# Altium footprint library pcb lib.PcbLib: 160 footprints (part 2 of 10)
Each footprint in its own frame and in the unit in brackets; x right, y up, seen from the top. Pads: shape width x height; smd on the part's side, far side on the other; paste and mask are expansions set on the pad; w line width, h text height; cw(c..) or ccw(c..) is an arc to the next point about the centre after c.
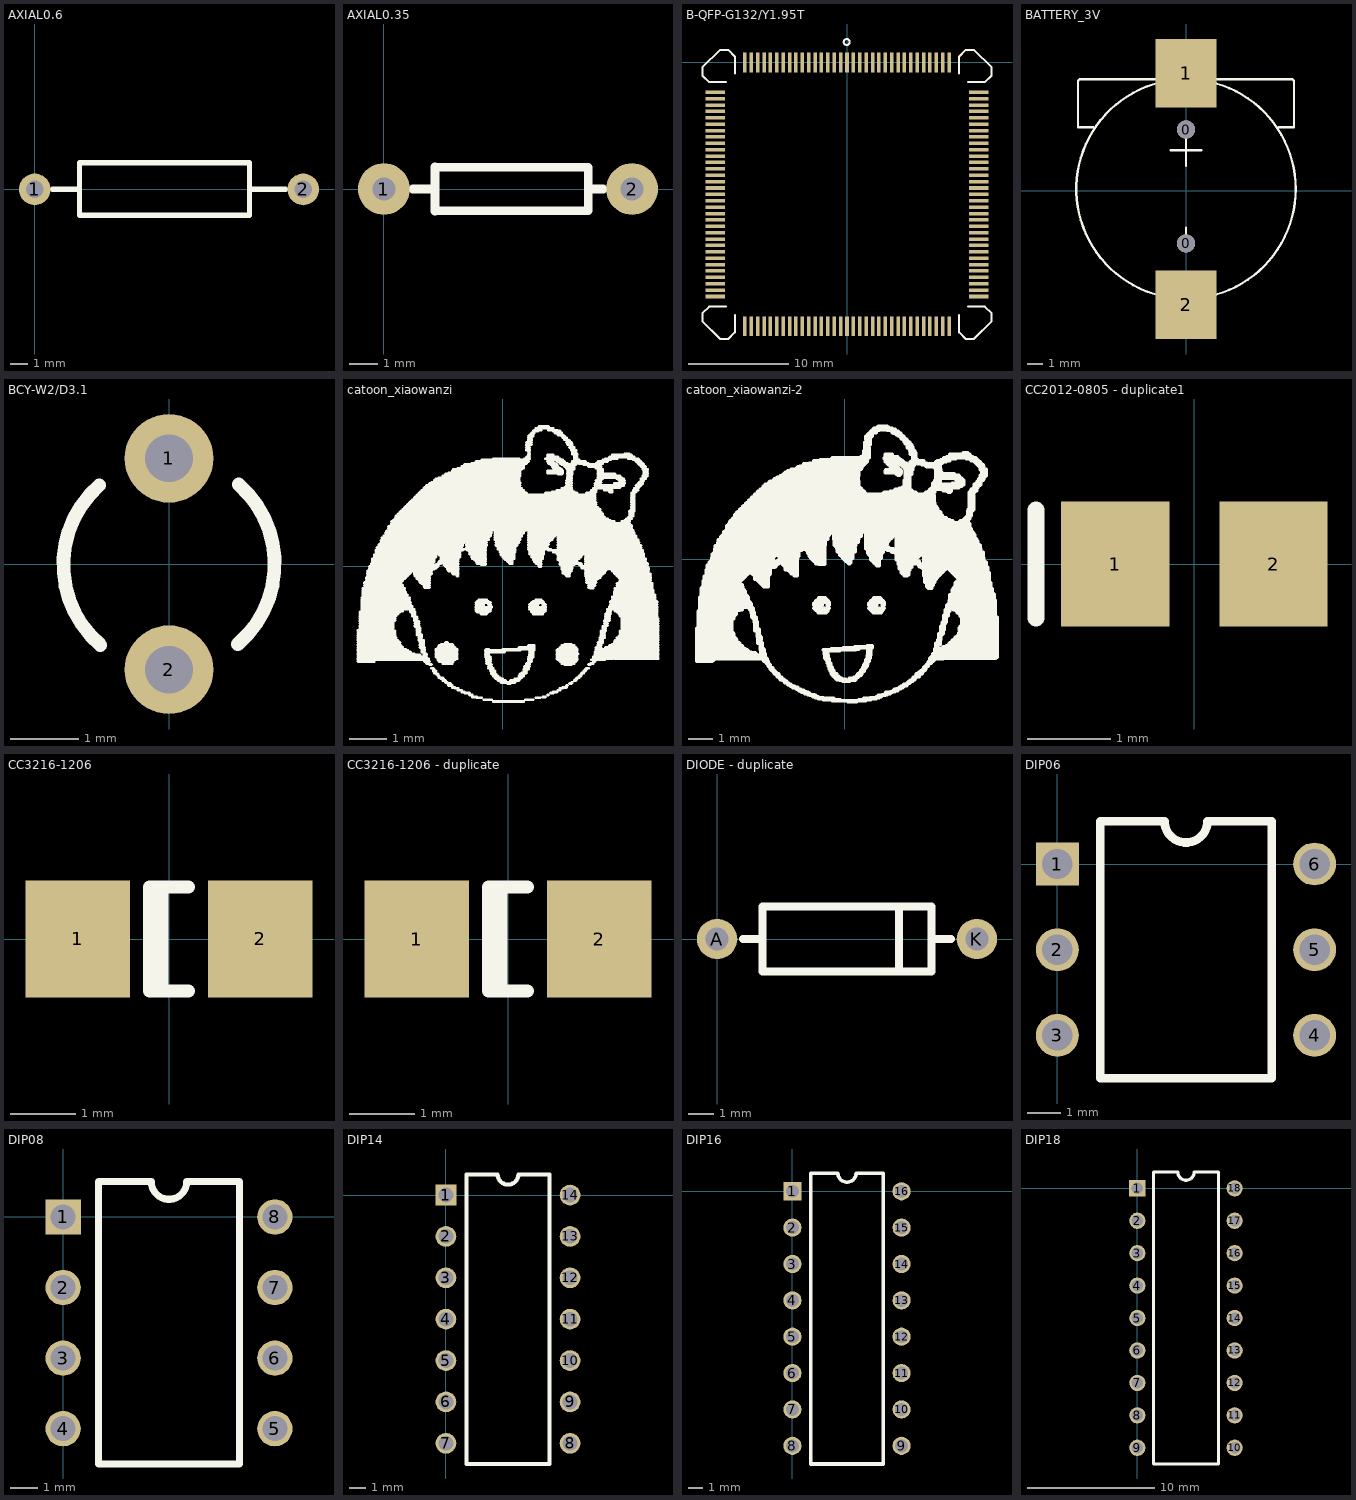
[diagram p1: the footprints below, top view; thin cyan lines are the x and y axes]

## AXIAL0.6 [mm]
pads (2):
  round 1.8 hole 1: 1(0,0) 2(15.24,0)
Top Overlay:
  lines w0.3: 12.192,-1.476 12.192,1.524
  lines w0.305: 1.016,0 2.54,0 ; 12.192,-1.476 2.54,-1.476 2.54,1.524 12.192,1.524 ; 12.192,0 14.224,0

## AXIAL0.35 [mm]
pads (2):
  round 1.8 hole 0.8: 1(0,0) 2(8.636,0)
Top Overlay:
  lines w0.3: 1.778,-0.762 1.778,0.762 7.112,0.762 7.112,0 7.112,-0.762 1.778,-0.762
  lines w0.305: 1.016,0 1.778,0 ; 1.778,-0.762 1.778,0.762 ; 7.112,0 7.62,0

## B-QFP-G132/Y1.95T [mm]
pads (132):
  rect 0.35x1.95 smd: 1(0,0) 2(-0.635,0) 3(-1.27,0) 4(-1.905,0) 5(-2.54,0) 6(-3.175,0) 7(-3.81,0) 8(-4.445,0) 9(-5.08,0) 10(-5.715,0) 11(-6.35,0) 12(-6.985,0) 13(-7.62,0) 14(-8.255,0) 15(-8.89,0) 16(-9.525,0) 17(-10.16,0) 51(-10.16,-26.25) 52(-9.525,-26.25) 53(-8.89,-26.25) 54(-8.255,-26.25) 55(-7.62,-26.25) 56(-6.985,-26.25) 57(-6.35,-26.25) 58(-5.715,-26.25) 59(-5.08,-26.25) 60(-4.445,-26.25) 61(-3.81,-26.25) 62(-3.175,-26.25) 63(-2.54,-26.25) 64(-1.905,-26.25) 65(-1.27,-26.25) 66(-0.635,-26.25) 67(0,-26.25) 68(0.635,-26.25) 69(1.27,-26.25) 70(1.905,-26.25) 71(2.54,-26.25) 72(3.175,-26.25) 73(3.81,-26.25) 74(4.445,-26.25) 75(5.08,-26.25) 76(5.715,-26.25) 77(6.35,-26.25) 78(6.985,-26.25) 79(7.62,-26.25) 80(8.255,-26.25) 81(8.89,-26.25) 82(9.525,-26.25) 83(10.16,-26.25) 117(10.16,0) 118(9.525,0) 119(8.89,0) 120(8.255,0) 121(7.62,0) 122(6.985,0) 123(6.35,0) 124(5.715,0) 125(5.08,0) 126(4.445,0) 127(3.81,0) 128(3.175,0) 129(2.54,0) 130(1.905,0) 131(1.27,0) 132(0.635,0)
  rect 1.95x0.35 smd: 18(-13.125,-2.965) 19(-13.125,-3.6) 20(-13.125,-4.235) 21(-13.125,-4.87) 22(-13.125,-5.505) 23(-13.125,-6.14) 24(-13.125,-6.775) 25(-13.125,-7.41) 26(-13.125,-8.045) 27(-13.125,-8.68) 28(-13.125,-9.315) 29(-13.125,-9.95) 30(-13.125,-10.585) 31(-13.125,-11.22) 32(-13.125,-11.855) 33(-13.125,-12.49) 34(-13.125,-13.125) 35(-13.125,-13.76) 36(-13.125,-14.395) 37(-13.125,-15.03) 38(-13.125,-15.665) 39(-13.125,-16.3) 40(-13.125,-16.935) 41(-13.125,-17.57) 42(-13.125,-18.205) 43(-13.125,-18.84) 44(-13.125,-19.475) 45(-13.125,-20.11) 46(-13.125,-20.745) 47(-13.125,-21.38) 48(-13.125,-22.015) 49(-13.125,-22.65) 50(-13.125,-23.285) 84(13.125,-23.285) 85(13.125,-22.65) 86(13.125,-22.015) 87(13.125,-21.38) 88(13.125,-20.745) 89(13.125,-20.11) 90(13.125,-19.475) 91(13.125,-18.84) 92(13.125,-18.205) 93(13.125,-17.57) 94(13.125,-16.935) 95(13.125,-16.3) 96(13.125,-15.665) 97(13.125,-15.03) 98(13.125,-14.395) 99(13.125,-13.76) 100(13.125,-13.125) 101(13.125,-12.49) 102(13.125,-11.855) 103(13.125,-11.22) 104(13.125,-10.585) 105(13.125,-9.95) 106(13.125,-9.315) 107(13.125,-8.68) 108(13.125,-8.045) 109(13.125,-7.41) 110(13.125,-6.775) 111(13.125,-6.14) 112(13.125,-5.505) 113(13.125,-4.87) 114(13.125,-4.235) 115(13.125,-3.6) 116(13.125,-2.965)
Top Overlay:
  circle w0.2: c-0.03,2.035 r0.3
  lines w0.2: -12.02,-24.285 -13.717,-24.285 -14.387,-24.955 -14.387,-25.755 -12.63,-27.512 -11.83,-27.512 -11.16,-26.842 -11.16,-25.145 ; -12.02,-1.965 -13.717,-1.965 -14.387,-1.295 -14.387,-0.495 -12.63,1.263 -11.83,1.263 -11.16,0.593 -11.16,-1.105 ; 11.16,-25.145 11.16,-26.842 11.83,-27.512 12.63,-27.512 14.387,-25.755 14.387,-24.955 13.717,-24.285 12.02,-24.285 ; 11.16,-1.105 11.16,0.593 11.83,1.263 12.63,1.263 14.387,-0.495 14.387,-1.295 13.717,-1.965 12.02,-1.965

## BATTERY_3V [mm]
pads (4):
  round 1.2 hole 1.2: 0(0,-3.48) 0(0,4.013)
  rect 4x4.5 smd: 1(0,7.722) 2(0,-7.518)
Top Overlay:
  circle w0.152: c0,0.102 r7.22
  lines w0.152: -6.096,4.166 -7.112,4.166 -7.112,7.214 -7.004,7.322 0,7.322 7.004,7.322 7.112,7.214 7.112,4.166 6.096,4.166 ; -1.016,2.642 1.016,2.642 ; 0,-3.962 0,-2.438 ; 0,1.626 0,3.658

## BCY-W2/D3.1 [mm] "Crystal, Thru-Hole; 2 Leads; Body 3.1 x 8.2 mm (Dia.xH)"
pads (2):
  round 1.3 hole 0.7: 1(0,1.55) 2(0,-1.55)
Top Overlay:
  lines w0.2: -1.022,1.155 ccw(c0,-0.01) -1.006,-1.189 ; 1.006,-1.179 ccw(c0,0) 1.022,1.165

## catoon_xiaowanzi [mm]
Top Overlay:
  drawing of 683 lines, arcs and shapes, not listed

## catoon_xiaowanzi-2 [mm]
Top Overlay:
  drawing of 1007 lines, arcs and shapes, not listed

## CC2012-0805 - duplicate1 [mm] "Chip Capacitor; Body 2.0 x 1.2 mm (LxW typ)"
height 1.1
pads (2):
  rect 1.3x1.5 smd: 1(-0.95,0) 2(0.95,0)
Top Overlay:
  lines w0.2: -1.9,-0.65 -1.9,0.65

## CC3216-1206 [mm] "Chip Capacitor; Body 3.2 x 1.6 mm (LxW typ)"
height 1.35
pads (2):
  rect 1.6x1.8 smd: 1(-1.4,0) 2(1.4,0)
Top Overlay:
  lines w0.2: -0.11,-0.8 -0.11,0.8 ; 0.3,-0.8 -0.3,-0.8 -0.3,0.8 0.3,0.8

## CC3216-1206 - duplicate [mm] "Chip Capacitor; Body 3.2 x 1.6 mm (LxW typ)"
height 1.35
pads (2):
  rect 1.6x1.8 smd: 1(-1.4,0) 2(1.4,0)
Top Overlay:
  lines w0.2: -0.11,-0.8 -0.11,0.8 ; 0.3,-0.8 -0.3,-0.8 -0.3,0.8 0.3,0.8

## DIODE - duplicate [mil]
pads (2):
  round 62 hole 35.43: A(0,0) K(400,0)
Top Overlay:
  lines w12: 40,0 70,0 ; 280,-50 280,50 ; 330,0 360,0 ; 70,-50 330,-50 330,50 70,50 70,-50

## DIP06 [mm]
pads (6):
  rect 1.27x1.27 hole 0.9: 1(0,0)
  round 1.27 hole 0.9: 2(0,-2.54) 3(0,-5.08) 4(7.62,-5.08) 5(7.62,-2.54) 6(7.62,0)
Top Overlay:
  lines w0.254: 1.27,-6.35 6.35,-6.35 6.35,1.27 4.445,1.27 cw(c3.81,1.27) 3.175,1.27 1.27,1.27 1.27,-6.35

## DIP08 [mm]
pads (8):
  rect 1.27x1.27 hole 0.9: 1(0,0)
  round 1.27 hole 0.9: 2(0,-2.54) 3(0,-5.08) 4(0,-7.62) 5(7.62,-7.62) 6(7.62,-5.08) 7(7.62,-2.54) 8(7.62,0)
Top Overlay:
  lines w0.254: 1.27,-8.89 6.35,-8.89 6.35,1.27 4.445,1.27 cw(c3.81,1.27) 3.175,1.27 1.27,1.27 1.27,-8.89

## DIP14 [mm]
pads (14):
  rect 1.27x1.27 hole 0.9: 1(0,0)
  round 1.27 hole 0.9: 2(0,-2.54) 3(0,-5.08) 4(0,-7.62) 5(0,-10.16) 6(0,-12.7) 7(0,-15.24) 8(7.62,-15.24) 9(7.62,-12.7) 10(7.62,-10.16) 11(7.62,-7.62) 12(7.62,-5.08) 13(7.62,-2.54) 14(7.62,0)
Top Overlay:
  lines w0.254: 1.27,-16.51 6.35,-16.51 6.35,1.27 4.445,1.27 cw(c3.81,1.27) 3.175,1.27 1.27,1.27 1.27,-16.51

## DIP16 [mm]
pads (16):
  rect 1.27x1.27 hole 0.9: 1(0,0)
  round 1.27 hole 0.9: 2(0,-2.54) 3(0,-5.08) 4(0,-7.62) 5(0,-10.16) 6(0,-12.7) 7(0,-15.24) 8(0,-17.78) 9(7.62,-17.78) 10(7.62,-15.24) 11(7.62,-12.7) 12(7.62,-10.16) 13(7.62,-7.62) 14(7.62,-5.08) 15(7.62,-2.54) 16(7.62,0)
Top Overlay:
  lines w0.254: 1.27,-19.05 1.27,1.27 3.175,1.27 ccw(c3.81,1.27) 4.445,1.27 6.35,1.27 6.35,-19.05 1.27,-19.05

## DIP18 [mm]
pads (18):
  rect 1.27x1.27 hole 0.9: 1(0,0)
  round 1.27 hole 0.9: 2(0,-2.54) 3(0,-5.08) 4(0,-7.62) 5(0,-10.16) 6(0,-12.7) 7(0,-15.24) 8(0,-17.78) 9(0,-20.32) 10(7.62,-20.32) 11(7.62,-17.78) 12(7.62,-15.24) 13(7.62,-12.7) 14(7.62,-10.16) 15(7.62,-7.62) 16(7.62,-5.08) 17(7.62,-2.54) 18(7.62,0)
Top Overlay:
  lines w0.254: 1.27,-21.59 6.35,-21.59 6.35,1.27 4.445,1.27 cw(c3.81,1.27) 3.175,1.27 1.27,1.27 1.27,-21.59